# Altium footprint library ConnectorsLib.PcbLib: 142 footprints (part 4 of 9)
Each footprint in its own frame and in the unit in brackets; x right, y up, seen from the top. Pads: shape width x height; smd on the part's side, far side on the other; paste and mask are expansions set on the pad; w line width, h text height; cw(c..) or ccw(c..) is an arc to the next point about the centre after c.
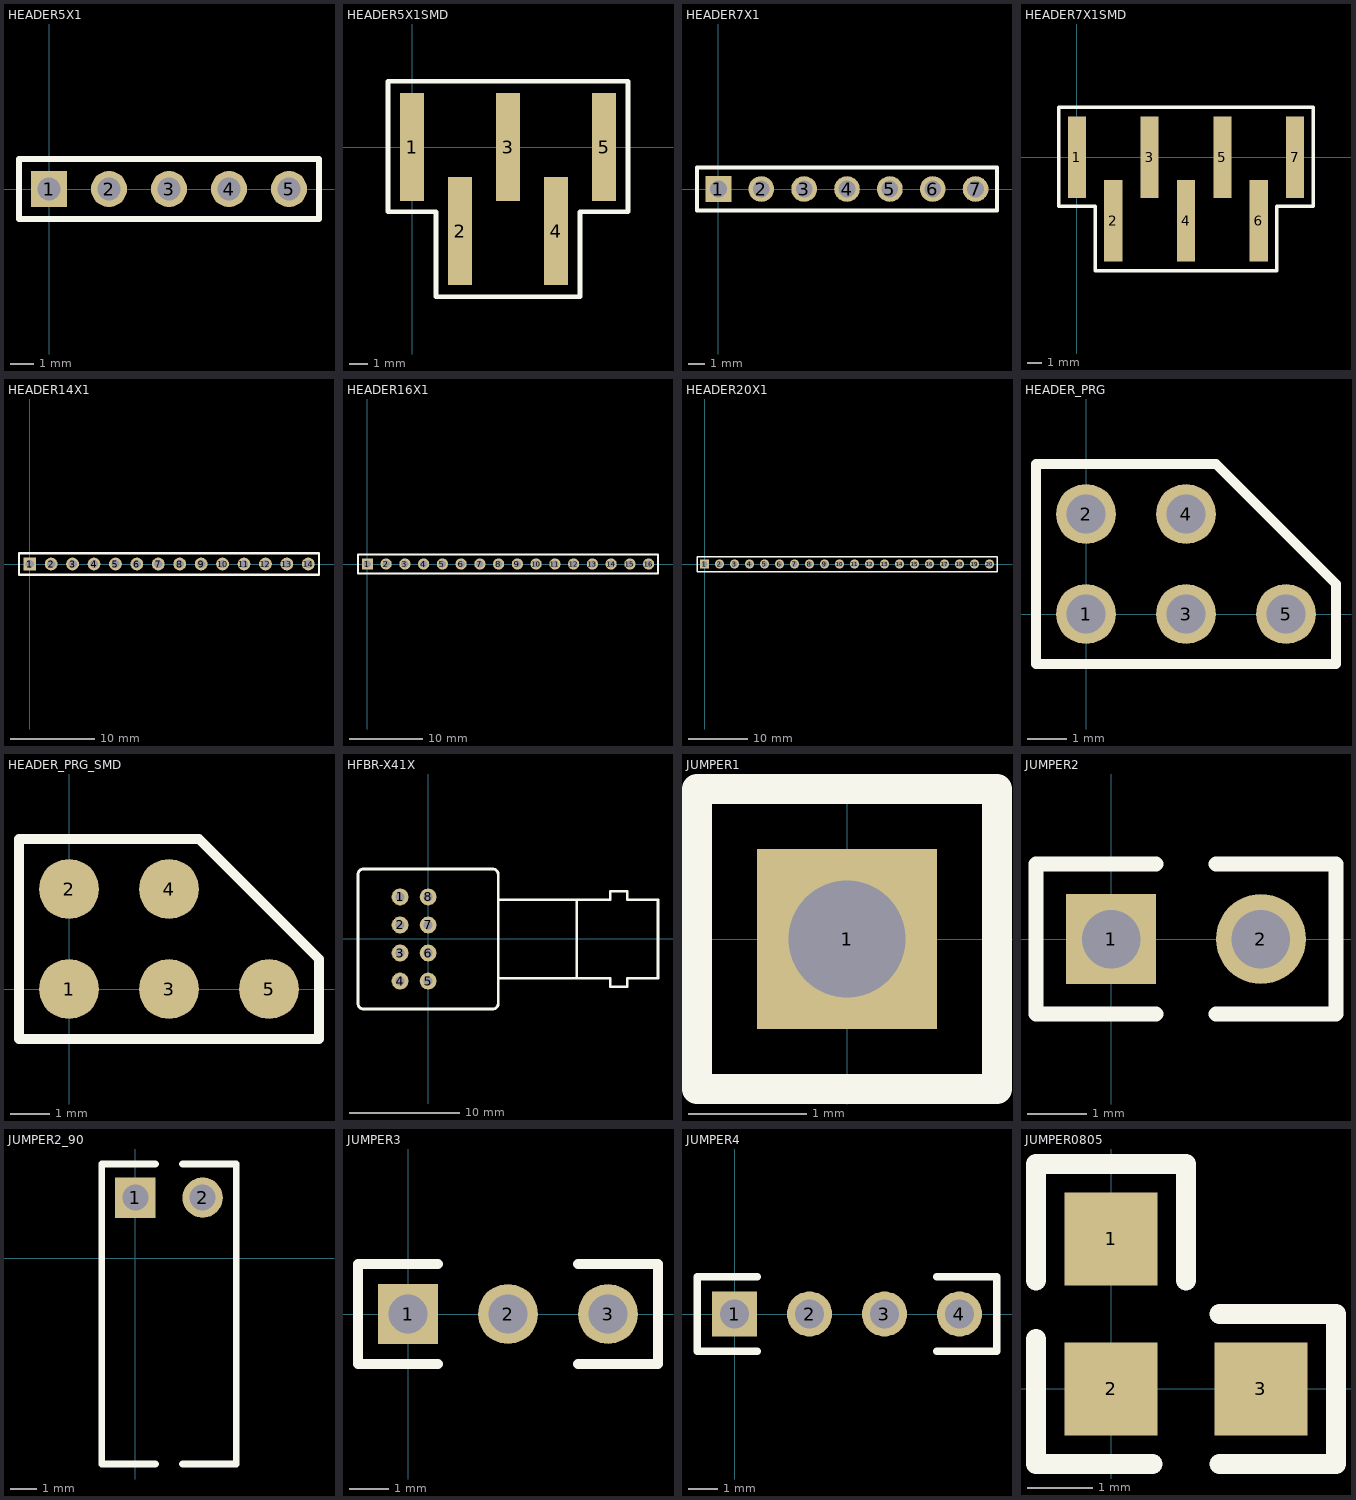
[diagram p3: the footprints below, top view; thin cyan lines are the x and y axes]

## HEADER5X1 [mil]
pads (5):
  rect 60x60 hole 39: 1(0,0)
  round 60 hole 39: 2(100,0) 3(200,0) 4(300,0) 5(400,0)
Top Overlay:
  lines w10: -50,-50 -50,50 450,50 450,-50 -50,-50

## HEADER5X1SMD [mil]
pads (5):
  rect 50x225 smd: 1(0,0) 2(100,-175) 3(200,0) 4(300,-175) 5(400,0)
Top Overlay:
  lines w10: -50,-135 -50,137 450,137 450,-135 350,-135 350,-312 50,-312 50,-135 -50,-135

## HEADER7X1 [mil]
pads (7):
  rect 60x60 hole 39: 1(0,0)
  round 60 hole 39: 2(100,0) 3(200,0) 4(300,0) 5(400,0) 6(500,0) 7(600,0)
Top Overlay:
  lines w10: -50,-50 650,-50 650,50 -50,50 -50,-50

## HEADER7X1SMD [mil]
pads (7):
  rect 50x225 smd: 1(0,0) 2(100,-175) 3(200,0) 4(300,-175) 5(400,0) 6(500,-175) 7(600,0)
Top Overlay:
  lines w10: -50,-135 50,-135 50,-312 550,-312 550,-135 650,-135 650,137 -50,137 -50,-135

## HEADER14X1 [mil]
pads (14):
  rect 60x60 hole 39: 1(0,0)
  round 60 hole 39: 2(100,0) 3(200,0) 4(300,0) 5(400,0) 6(500,0) 7(600,0) 8(700,0) 9(800,0) 10(900,0) 11(1000,0) 12(1100,0) 13(1200,0) 14(1300,0)
Top Overlay:
  lines w10: -50,-50 -50,50 1350,50 1350,-50 -50,-50

## HEADER16X1 [mil]
pads (16):
  rect 60x60 hole 39: 1(0,0)
  round 60 hole 39: 2(100,0) 3(200,0) 4(300,0) 5(400,0) 6(500,0) 7(600,0) 8(700,0) 9(800,0) 10(900,0) 11(1000,0) 12(1100,0) 13(1200,0) 14(1300,0) 15(1400,0) 16(1500,0)
Top Overlay:
  lines w10: -50,-50 -50,50 1550,50 1550,-50 -50,-50

## HEADER20X1 [mil]
pads (20):
  rect 60x60 hole 39: 1(0,0)
  round 60 hole 39: 2(100,0) 3(200,0) 4(300,0) 5(400,0) 6(500,0) 7(600,0) 8(700,0) 9(800,0) 10(900,0) 11(1000,0) 12(1100,0) 13(1200,0) 14(1300,0) 15(1400,0) 16(1500,0) 17(1600,0) 18(1700,0) 19(1800,0) 20(1900,0)
Top Overlay:
  lines w10: -50,-50 -50,50 1950,50 1950,-50 -50,-50

## HEADER_PRG [mil]
pads (5):
  round 60 hole 39: 1(0,0) 2(0,100) 3(100,0) 4(100,100) 5(200,0)
Top Overlay:
  lines w10: -50,-50 250,-50 250,30 130,150 -50,150 -50,-50

## HEADER_PRG_SMD [mil]
pads (5):
  round 60 smd: 1(0,0) 2(0,100) 3(100,0) 4(100,100) 5(200,0)
Top Overlay:
  lines w10: -50,-50 250,-50 250,30 130,150 -50,150 -50,-50

## HFBR-X41X [mil] "Fiber Transmitter/Receiver"
pads (8):
  round 60 hole 31: 1(-100,150) 2(-100,50) 3(-100,-50) 4(-100,-150) 5(0,-150) 6(0,-50) 7(0,50) 8(0,150)
Top Overlay:
  lines w10: 250,-140 650,-140 650,-170 710,-170 710,-140 820,-140 820,140 710,140 710,170 650,170 650,140 250,140 ; 530,-140 530,140 ; -250,-230 ccw(c-230,-230) -230,-250 230,-250 ccw(c230,-230) 250,-230 250,230 ccw(c230,230) 230,250 -230,250 ccw(c-230,230) -250,230 -250,-230
3D body: height 401.57, standoff -141.73, extent -250,-249.92 820.87,249.92

## JUMPER1 [mil]
pads (1):
  rect 60x60 hole 39: 1(0,0)
Top Overlay:
  lines w10: -50,-50 50,-50 50,50 -50,50 -50,-50

## JUMPER2 [mil]
pads (2):
  rect 60x60 hole 39: 1(0,0)
  round 60 hole 39: 2(100,0)
Top Overlay:
  lines w10: 30,-50 -50,-50 -50,50 30,50 ; 70,-50 150,-50 150,50 70,50
3D body: height 300.79, standoff 269.29, extent 77.5,-39 140,38.5
3D body: height 332.68, standoff 300.79, extent 77.5,-47 148,46.5
3D body: height 332.68, standoff 300.79, extent -48,-47 22.5,46.5
3D body: height 300.79, standoff 269.29, extent -40,-39 22.5,38.5
3D body: height 340.55, standoff -15.75, extent -13.5,-13.5 13.5,13.5
3D body: height 340.55, standoff -15.75, extent 86.5,-13.5 113.5,13.5
3D body: height 269.29, standoff 99.21, extent -48,-0.5 148,46.5
3D body: height 314.96, standoff 291.34, extent -30.5,13.5 130.5,25
3D body: height 98.43, standoff 0, extent 50,-50 150,50
3D body: height 98.43, standoff 0, extent -50,-50 50,50
3D body: height 269.29, standoff 99.21, extent -48,-47 148,0

## JUMPER2_90 [mil]
pads (2):
  rect 60x60 hole 39: 1(0,90)
  round 60 hole 39: 2(100,90)
Top Overlay:
  lines w10: 30,-306 -50,-306 -50,140 30,140 ; 70,-306 150,-306 150,140 70,140
3D body: height 63.5, standoff -15.75, extent 86.5,76.5 113.5,103.5
3D body: height 63.5, standoff 36.5, extent 86.5,-290.5 113.5,103.5
3D body: height 98.43, standoff 0, extent 50,-50 150,50
3D body: height 98.43, standoff 0, extent -50,-50 50,50
3D body: height 63.5, standoff 36.5, extent -13.5,-290.5 13.5,103.5
3D body: height 63.5, standoff -15.75, extent -13.5,76.5 13.5,103.5

## JUMPER3 [mil]
pads (3):
  rect 60x60 hole 39: 1(0,0)
  round 60 hole 39: 2(100,0) 3(200,0)
Top Overlay:
  lines w10: 30,-50 -50,-50 -50,50 30,50 ; 170,-50 250,-50 250,50 170,50
3D body: height 340.55, standoff -15.75, extent 186.5,-13.5 213.5,13.5
3D body: height 269.29, standoff 99.21, extent -48,-47 148,0
3D body: height 98.43, standoff 0, extent -50,-50 50,50
3D body: height 98.43, standoff 0, extent 50,-50 150,50
3D body: height 314.96, standoff 291.34, extent -30.5,13.5 130.5,25
3D body: height 269.29, standoff 99.21, extent -48,-0.5 148,46.5
3D body: height 340.55, standoff -15.75, extent 86.5,-13.5 113.5,13.5
3D body: height 340.55, standoff -15.75, extent -13.5,-13.5 13.5,13.5
3D body: height 300.79, standoff 269.29, extent -40,-39 22.5,38.5
3D body: height 332.68, standoff 300.79, extent -48,-47 22.5,46.5
3D body: height 332.68, standoff 300.79, extent 77.5,-47 148,46.5
3D body: height 300.79, standoff 269.29, extent 77.5,-39 140,38.5
3D body: height 98.43, standoff 0, extent 150,-50 250,50

## JUMPER4 [mil]
pads (4):
  rect 60x60 hole 39: 1(0,0)
  round 60 hole 39: 2(100,0) 3(200,0) 4(300,0)
Top Overlay:
  lines w10: 30,-50 -50,-50 -50,50 30,50 ; 270,-50 350,-50 350,50 270,50

## JUMPER0805 [mil]
pads (3):
  rect 56x56 smd: 1(0,90) 2(0,0) 3(90,0)
Top Overlay:
  lines w12: -45,30 -45,-45 25,-45 ; -45,65 -45,135 45,135 45,65 ; 65,-45 135,-45 135,45 65,45